# Altium schematic symbol library Aristuino_pins_2.SchLib: 1 symbol
Pins are listed as number, name and electrical type; pins without a type are passive.

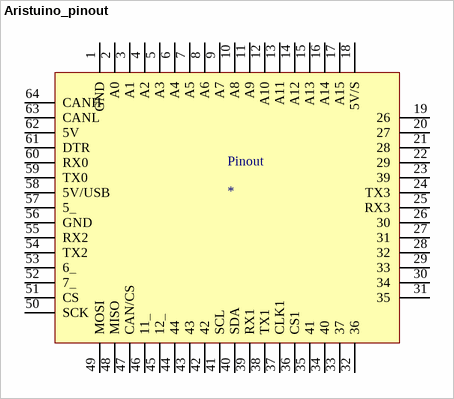
[diagram p0: symbol Aristuino_pinout]

## Aristuino_pinout
designator Pinout
footprint 18x15 rectangular pin
pins: 1 GND, 2 A0, 3 A1, 4 A2, 5 A3, 6 A4, 7 A5, 8 A6, 9 A7, 10 A8, 11 A9, 12 A10, 13 A11, 14 A12, 15 A13, 16 A14, 17 A15, 18 5V/S, 19 26, 20 27, 21 28, 22 29, 23 39, 24 TX3, 25 RX3, 26 30, 27 31, 28 32, 29 33, 30 34, 31 35, 32 36, 33 37, 34 40, 35 41, 36 CS1, 37 CLK1, 38 TX1, 39 RX1, 40 SDA, 41 SCL, 42, 43, 44, 45 12_, 46 11_, 47 CAN/CS, 48 MISO, 49 MOSI, 50 SCK, 51 CS, 52 7_, 53 6_, 54 TX2, 55 RX2, 56 GND, 57 5_, 58 5V/USB, 59 TX0, 60 RX0, 61 DTR, 62 5V, 63 CANL, 64 CANH